# EAGLE library part QFP28-160PIN (library QFP28-160PIN_SAPPORO_ROBOTICS)
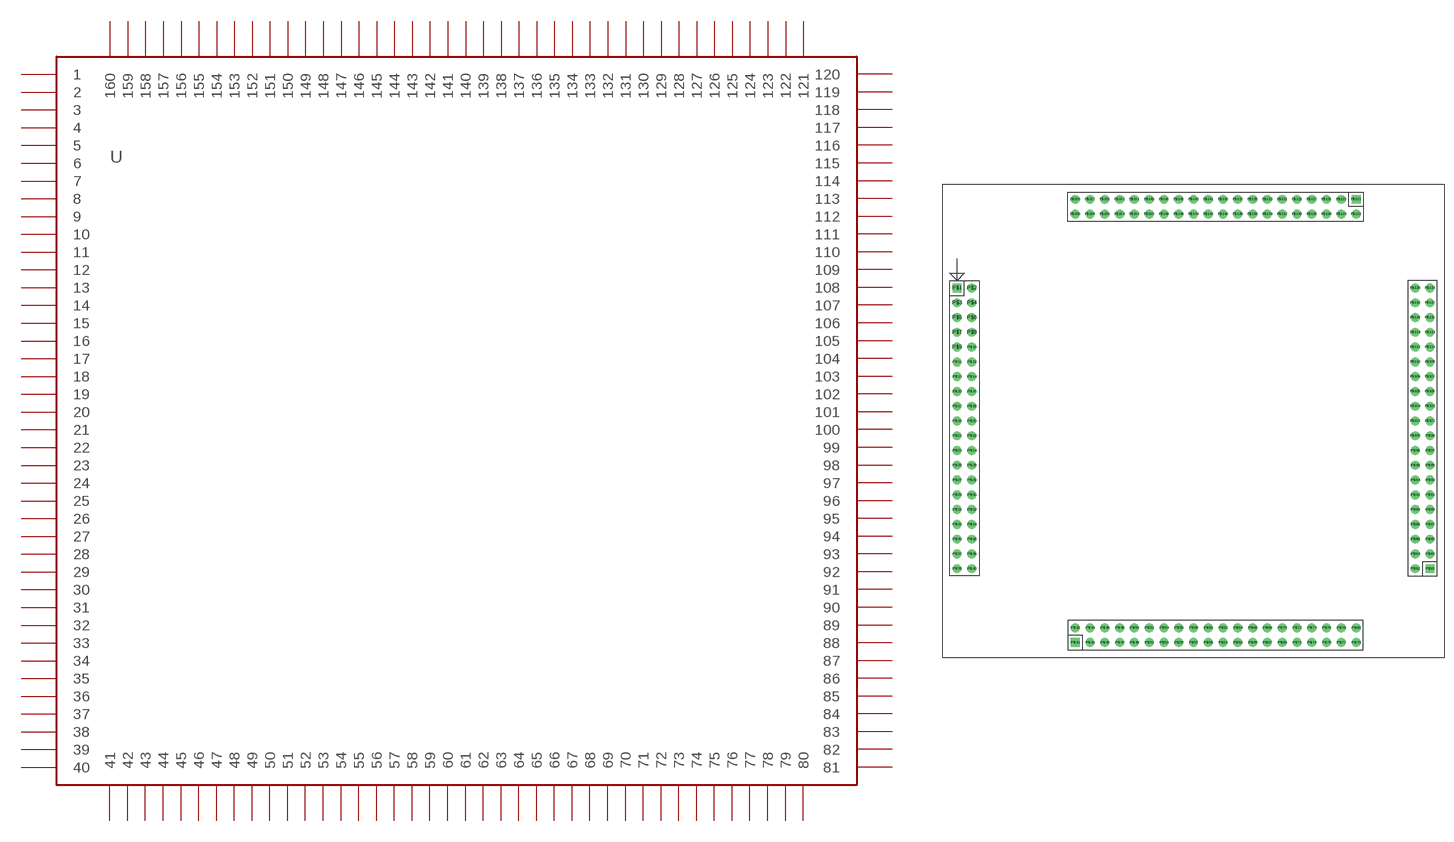
[diagram p0: symbol with the pads of QFP28-160PIN; footprint QFP28-160PIN]

Designator prefix -

## QFP28-160PIN  [QFP28-160PIN]
P$1  1
P$2  2
P$3  3
P$4  4
P$5  5
P$6  6
P$7  7
P$8  8
P$9  9
P$10  10
P$11  11
P$12  12
P$13  13
P$14  14
P$15  15
P$16  16
P$17  17
P$18  18
P$19  19
P$20  20
P$21  21
P$22  22
P$23  23
P$24  24
P$25  25
P$26  26
P$27  27
P$28  28
P$29  29
P$30  30
P$31  31
P$32  32
P$33  33
P$34  34
P$35  35
P$36  36
P$37  37
P$38  38
P$39  39
P$40  40
P$41  41
P$42  42
P$43  43
P$44  44
P$45  45
P$46  46
P$47  47
P$48  48
P$49  49
P$50  50
P$51  51
P$52  52
P$53  53
P$54  54
P$55  55
P$56  56
P$57  57
P$58  58
P$59  59
P$60  60
P$61  61
P$62  62
P$63  63
P$64  64
P$65  65
P$66  66
P$67  67
P$68  68
P$69  69
P$70  70
P$71  71
P$72  72
P$73  73
P$74  74
P$75  75
P$76  76
P$77  77
P$78  78
P$79  79
P$80  80
P$81  81
P$82  82
P$83  83
P$84  84
P$85  85
P$86  86
P$87  87
P$88  88
P$89  89
P$90  90
P$91  91
P$92  92
P$93  93
P$94  94
P$95  95
P$96  96
P$97  97
P$98  98
P$99  99
P$100  100
P$101  101
P$102  102
P$103  103
P$104  104
P$105  105
P$106  106
P$107  107
P$108  108
P$109  109
P$110  110
P$111  111
P$112  112
P$113  113
P$114  114
P$115  115
P$116  116
P$117  117
P$118  118
P$119  119
P$120  120
P$121  121
P$122  122
P$123  123
P$124  124
P$125  125
P$126  126
P$127  127
P$128  128
P$129  129
P$130  130
P$131  131
P$132  132
P$133  133
P$134  134
P$135  135
P$136  136
P$137  137
P$138  138
P$139  139
P$140  140
P$141  141
P$142  142
P$143  143
P$144  144
P$145  145
P$146  146
P$147  147
P$148  148
P$149  149
P$150  150
P$151  151
P$152  152
P$153  153
P$154  154
P$155  155
P$156  156
P$157  157
P$158  158
P$159  159
P$160  160

## Footprint QFP28-160PIN (pad centres in mm)
drill 1.016 pad 1.524 square: P$1 -40.64,22.86; P$41 -20.32,-38.1; P$81 40.64,-25.4; P$121 27.94,38.1
drill 1.016 pad 1.524: P$2 -38.1,22.86; P$3 -40.64,20.32; P$4 -38.1,20.32; P$5 -40.64,17.78; P$6 -38.1,17.78; P$7 -40.64,15.24; P$8 -38.1,15.24; P$9 -40.64,12.7; P$10 -38.1,12.7; P$11 -40.64,10.16; P$12 -38.1,10.16; P$13 -40.64,7.62; P$14 -38.1,7.62; P$15 -40.64,5.08; P$16 -38.1,5.08; P$17 -40.64,2.54; P$18 -38.1,2.54; P$19 -40.64,0; P$20 -38.1,0; P$21 -40.64,-2.54; P$22 -38.1,-2.54; P$23 -40.64,-5.08; P$24 -38.1,-5.08; P$25 -40.64,-7.62; P$26 -38.1,-7.62; P$27 -40.64,-10.16; P$28 -38.1,-10.16; P$29 -40.64,-12.7; P$30 -38.1,-12.7; P$31 -40.64,-15.24; P$32 -38.1,-15.24; P$33 -40.64,-17.78; P$34 -38.1,-17.78; P$35 -40.64,-20.32; P$36 -38.1,-20.32; P$37 -40.64,-22.86; P$38 -38.1,-22.86; P$39 -40.64,-25.4; P$40 -38.1,-25.4; P$42 -20.32,-35.56; P$43 -17.78,-38.1; P$44 -17.78,-35.56; P$45 -15.24,-38.1; P$46 -15.24,-35.56; P$47 -12.7,-38.1; P$48 -12.7,-35.56; P$49 -10.16,-38.1; P$50 -10.16,-35.56; P$51 -7.62,-38.1; P$52 -7.62,-35.56; P$53 -5.08,-38.1; P$54 -5.08,-35.56; P$55 -2.54,-38.1; P$56 -2.54,-35.56; P$57 0,-38.1; P$58 0,-35.56; P$59 2.54,-38.1; P$60 2.54,-35.56; P$61 5.08,-38.1; P$62 5.08,-35.56; P$63 7.62,-38.1; P$64 7.62,-35.56; P$65 10.16,-38.1; P$66 10.16,-35.56; P$67 12.7,-38.1; P$68 12.7,-35.56; P$69 15.24,-38.1; P$70 15.24,-35.56; P$71 17.78,-38.1; P$72 17.78,-35.56; P$73 20.32,-38.1; P$74 20.32,-35.56; P$75 22.86,-38.1; P$76 22.86,-35.56; P$77 25.4,-38.1; P$78 25.4,-35.56; P$79 27.94,-38.1; P$80 27.94,-35.56; P$82 38.1,-25.4; P$83 40.64,-22.86; P$84 38.1,-22.86; P$85 40.64,-20.32; P$86 38.1,-20.32; P$87 40.64,-17.78; P$88 38.1,-17.78; P$89 40.64,-15.24; P$90 38.1,-15.24; P$91 40.64,-12.7; P$92 38.1,-12.7; P$93 40.64,-10.16; P$94 38.1,-10.16; P$95 40.64,-7.62; P$96 38.1,-7.62; P$97 40.64,-5.08; P$98 38.1,-5.08; P$99 40.64,-2.54; P$100 38.1,-2.54; P$101 40.64,0; P$102 38.1,0; P$103 40.64,2.54; P$104 38.1,2.54; P$105 40.64,5.08; P$106 38.1,5.08; P$107 40.64,7.62; P$108 38.1,7.62; P$109 40.64,10.16; P$110 38.1,10.16; P$111 40.64,12.7; P$112 38.1,12.7; P$113 40.64,15.24; P$114 38.1,15.24; P$115 40.64,17.78; P$116 38.1,17.78; P$117 40.64,20.32; P$118 38.1,20.32; P$119 40.64,22.86; P$120 38.1,22.86; P$122 27.94,35.56; P$123 25.4,38.1; P$124 25.4,35.56; P$125 22.86,38.1; P$126 22.86,35.56; P$127 20.32,38.1; P$128 20.32,35.56; P$129 17.78,38.1; P$130 17.78,35.56; P$131 15.24,38.1; P$132 15.24,35.56; P$133 12.7,38.1; P$134 12.7,35.56; P$135 10.16,38.1; P$136 10.16,35.56; P$137 7.62,38.1; P$138 7.62,35.56; P$139 5.08,38.1; P$140 5.08,35.56; P$141 2.54,38.1; P$142 2.54,35.56; P$143 0,38.1; P$144 0,35.56; P$145 -2.54,38.1; P$146 -2.54,35.56; P$147 -5.08,38.1; P$148 -5.08,35.56; P$149 -7.62,38.1; P$150 -7.62,35.56; P$151 -10.16,38.1; P$152 -10.16,35.56; P$153 -12.7,38.1; P$154 -12.7,35.56; P$155 -15.24,38.1; P$156 -15.24,35.56; P$157 -17.78,38.1; P$158 -17.78,35.56; P$159 -20.32,38.1; P$160 -20.32,35.56